# EAGLE library part NANOPI2_MOCKUP (library zumy)
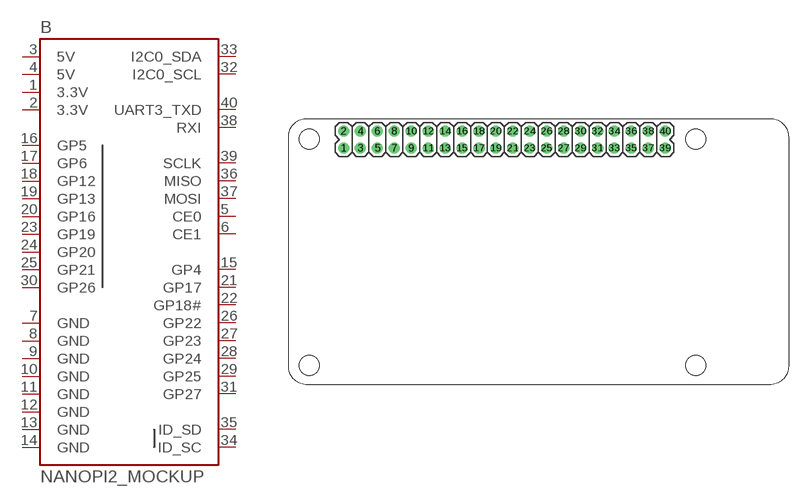
[diagram p7: symbol with the pads of NANOPI2; footprint NANOPI2]

Designator prefix B

## NANOPI2_MOCKUP  [NANOPI2]
1  3.3V  pwr
2  3.3V  pwr
3  5V  pwr
4  5V  pwr
5  CE0  out
6  CE1  out
7  GND  pwr
8  GND  pwr
9  GND  pwr
10  GND  pwr
11  GND  pwr
12  GND  pwr
13  GND  pwr
14  GND  pwr
15  GP4
16  GP5
17  GP6
18  GP12
19  GP13
20  GP16
21  GP17
22  GP18#
23  GP19
24  GP20
25  GP21
26  GP22
27  GP23
28  GP24
29  GP25
30  GP26
31  GP27
32  I2C0_SCL
33  I2C0_SDA
34  ID_SC
35  ID_SD
36  MISO  in
37  MOSI  out
38  RXI  in
39  SCLK  out
40  UART3_TXD  out

## Footprint NANOPI2 (pad centres in mm)
drill 1.016 pad 1.651: 1 8.255,35.56; 2 8.255,38.1; 3 10.795,35.56; 4 10.795,38.1; 5 13.335,35.56; 6 13.335,38.1; 7 15.875,35.56; 8 15.875,38.1; 9 18.415,35.56; 10 18.415,38.1; 11 20.955,35.56; 12 20.955,38.1; 13 23.495,35.56; 14 23.495,38.1; 15 26.035,35.56; 16 26.035,38.1; 17 28.575,35.56; 18 28.575,38.1; 19 31.115,35.56; 20 31.115,38.1; 21 33.655,35.56; 22 33.655,38.1; 23 36.195,35.56; 24 36.195,38.1; 25 38.735,35.56; 26 38.735,38.1; 27 41.275,35.56; 28 41.275,38.1; 29 43.815,35.56; 30 43.815,38.1; 31 46.355,35.56; 32 46.355,38.1; 33 48.895,35.56; 34 48.895,38.1; 35 51.435,35.56; 36 51.435,38.1; 37 53.975,35.56; 38 53.975,38.1; 39 56.515,35.56; 40 56.515,38.1
hole 3 at 3.1,36.9
hole 3 at 3.1,2.9
hole 3 at 61.1,2.9
hole 3 at 61.1,36.9